# Altium footprint library DWM_PCB.PcbLib: 1 footprints
Each footprint in its own frame and in the unit in brackets; x right, y up, seen from the top. Pads: shape width x height; smd on the part's side, far side on the other; paste and mask are expansions set on the pad; w line width, h text height; cw(c..) or ccw(c..) is an arc to the next point about the centre after c.
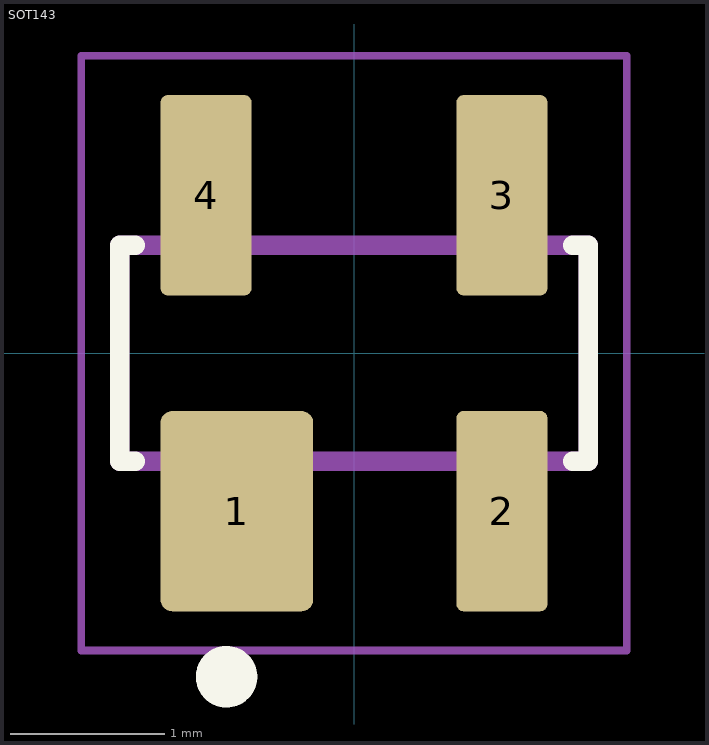
[diagram p0: the footprint, top view; thin cyan lines are the x and y axes]

## SOT143 [mm]
pads (4):
  rrect15% 0.99x1.3 smd: 1(-0.76,-1.025)
  rrect15% 0.59x1.3 smd: 2(0.96,-1.025) 3(0.96,1.025) 4(-0.96,1.025)
Top Overlay:
  circle w0.2: c-0.827,-2.1 r0.1
  lines w0.127: -1.42,-0.7 -1.52,-0.7 -1.52,0.7 -1.42,0.7 ; 1.42,-0.7 1.52,-0.7 1.52,0.7 1.42,0.7
Mechanical 13:
  lines w0.127: -1.52,-0.7 1.52,-0.7 1.52,0.7 -1.52,0.7 -1.52,-0.7
Mechanical 15:
  lines w0.05: -1.77,-1.93 1.77,-1.93 1.77,1.93 -1.77,1.93 -1.77,-1.93